# EAGLE library part 5036-008-210-862 (library con-kyocera-elco)
SIM Card Module Source: http://www.kyocera-elco.com/prdct/pdf/5036.pdf
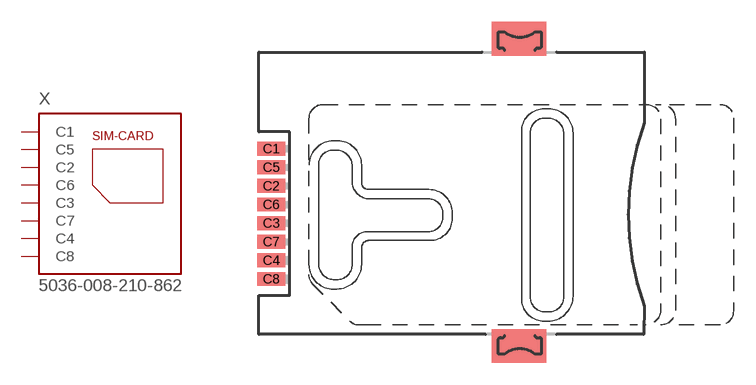
[diagram p0: symbol with the pads of 5036_008_210_862; footprint 5036_008_210_862]

Designator prefix X

## 5036-008-210-862 (OC_FARNELL: unknown; OC_NEWARK: unknown)  [5036_008_210_862]
C1  C1  pas
C2  C2  pas
C3  C3  pas
C4  C4  pas
C5  C5  pas
C6  C6  pas
C7  C7  pas
C8  C8  pas

## Footprint 5036_008_210_862 (pad centres in mm)
SIM Card Module Source: http://www.kyocera-elco.com/prdct/pdf/5036.pdf
smd 1.9 x 0.95: C1 -16.9,2.98; C2 -16.9,0.44; C3 -16.9,-2.1; C4 -16.9,-4.64; C5 -16.9,1.71; C6 -16.9,-0.83; C7 -16.9,-3.37; C8 -16.9,-5.91